# Altium schematic symbol library mic5528.SchLib: 1 symbol
Pins are listed as number, name and electrical type; pins without a type are passive.

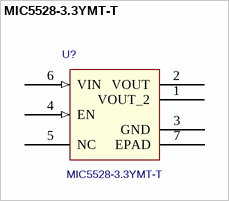
[diagram p0: symbol MIC5528-3.3YMT-T]

## MIC5528-3.3YMT-T
designator U?
Mfr_Name: Microchip; Manufacturer_Part_Number: MIC5528-3.3YMT-TR; Value: MIC5528-3.3YMT-T; Copyright: Copyright (C) 2022 Ultra Librarian. All rights reserved.
footprint TDFN6_1P2X1P2_MC
pins: 1 VOUT_2 (power), 2 VOUT (power), 3 GND (power), 4 EN (in), 5 NC, 6 VIN (in), 7 EPAD